# EAGLE library part DAC8820 (library 1A-meinLib)
16-Bit, parallel Input multiplying Digital-to-Analog Converter, TI, Burr Brown, SSOP-28
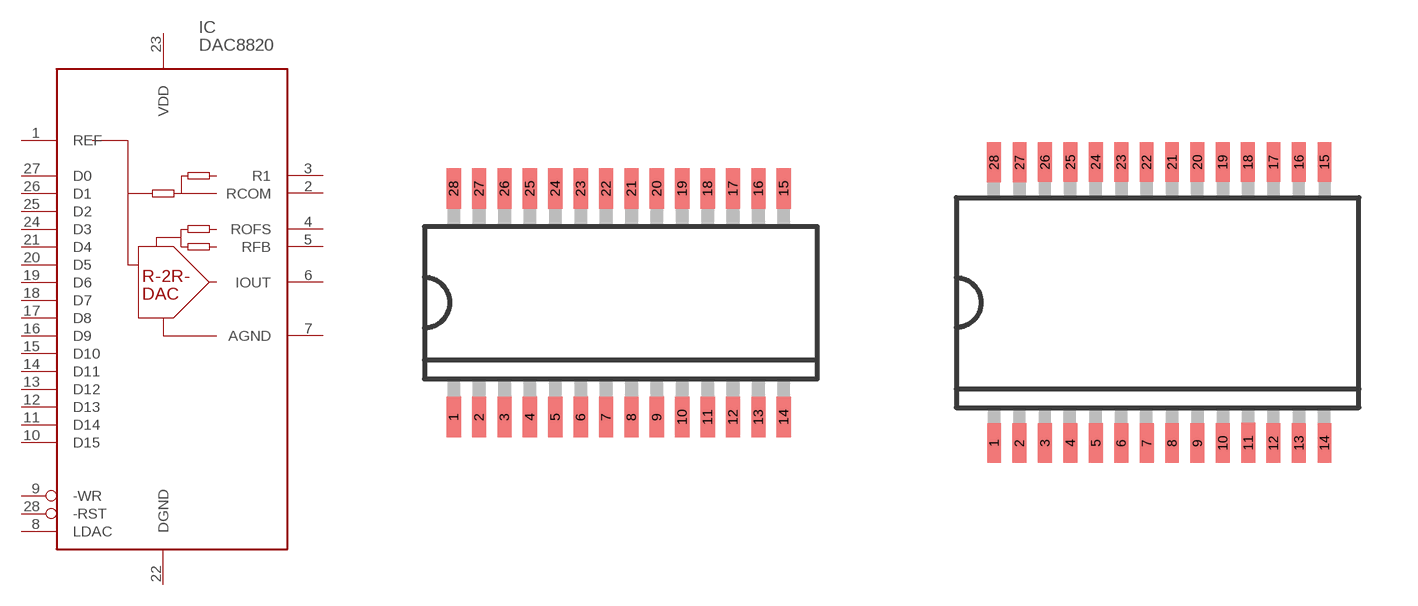
[diagram p164: symbol with the pads of SSOP-28; footprints SSOP-28, SSOP-28-0.209]

Designator prefix IC

## DAC8820  [SSOP-28]
1  REF  pas
2  RCOM  pas
3  R1  pas
4  ROFS  pas
5  RFB  pas
6  IOUT  out
7  AGND  pas
8  LDAC  in
9  -WR  in
10  D15  in
11  D14  in
12  D13  in
13  D12  in
14  D11  in
15  D10  in
16  D9  in
17  D8  in
18  D7  in
19  D6  in
20  D5  in
21  D4  in
22  DGND  pwr
23  VDD  pwr
24  D3  in
25  D2  in
26  D1  in
27  D0  in
28  -RST  in

## DAC88200.209  [SSOP-28-0.209]
Pads as for SSOP-28

## Footprint SSOP-28 (pad centres in mm)
smd 0.356 x 1.016: 1 -3.81,-2.857; 2 -3.175,-2.857; 3 -2.54,-2.857; 4 -1.905,-2.857; 5 -1.27,-2.857; 6 -0.635,-2.857; 7 0,-2.857; 8 0.635,-2.857; 9 1.27,-2.857; 10 1.905,-2.857; 11 2.54,-2.857; 12 3.175,-2.857; 13 3.81,-2.857; 14 4.445,-2.857; 15 4.445,2.857; 16 3.81,2.857; 17 3.175,2.857; 18 2.54,2.857; 19 1.905,2.857; 20 1.27,2.857; 21 0.635,2.857; 22 0,2.857; 23 -0.635,2.857; 24 -1.27,2.857; 25 -1.905,2.857; 26 -2.54,2.857; 27 -3.175,2.857; 28 -3.81,2.857

## Footprint SSOP-28-0.209 (pad centres in mm)
smd 0.356 x 1.016: 1 -4.229,-3.584; 2 -3.581,-3.587; 3 -2.926,-3.587; 4 -2.277,-3.587; 5 -1.623,-3.587; 6 -0.976,-3.587; 7 -0.322,-3.587; 8 0.327,-3.587; 9 0.977,-3.588; 10 1.626,-3.587; 11 2.277,-3.582; 12 2.923,-3.587; 13 3.575,-3.587; 14 4.228,-3.587; 15 4.228,3.603; 16 3.575,3.606; 17 2.923,3.603; 18 2.27,3.603; 19 1.623,3.603; 20 0.976,3.603; 21 0.327,3.603; 22 -0.327,3.603; 23 -0.976,3.603; 24 -1.628,3.603; 25 -2.274,3.603; 26 -2.926,3.603; 27 -3.576,3.598; 28 -4.229,3.598